# EAGLE library part AT91SAM3U2CA (library mbed-HDK-MF-ATMEL)
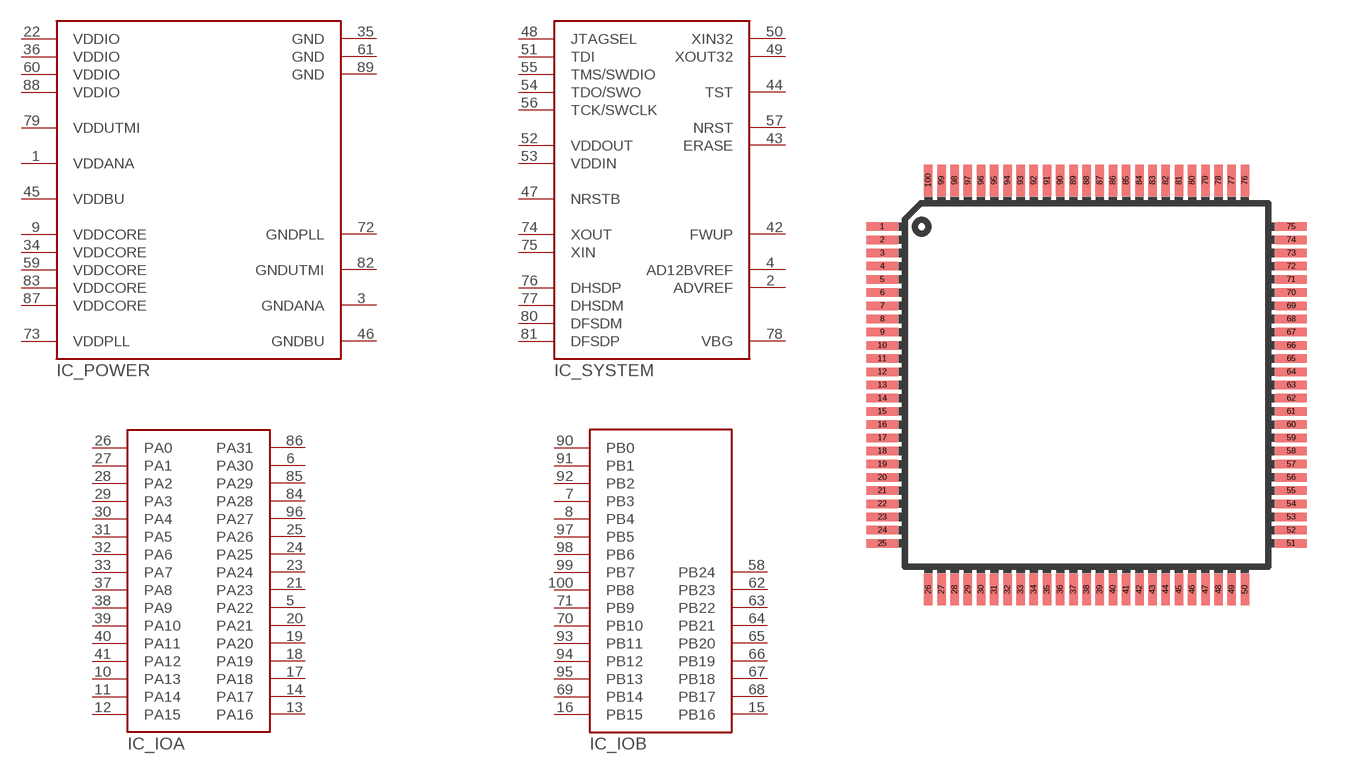
[diagram p4: symbol with the pads of LQFP100; footprint LQFP100]

Designator prefix IC; gates _POWER=AT91SAM3U2CA-AU_POWER _SYSTEM=AT91SAM3U2CA-AU_SYSTEM _IOA=AT91SAM3U2CA-AU_IOA _IOB=AT91SAM3U2CA-AU_IOB

## AT91SAM3U2CA  [LQFP100]
1  _POWER:VDDANA
2  _SYSTEM:ADVREF
3  _POWER:GNDANA
4  _SYSTEM:AD12BVREF
5  _IOA:PA22
6  _IOA:PA30
7  _IOB:PB3
8  _IOB:PB4
9  _POWER:VDDCORE
10  _IOA:PA13
11  _IOA:PA14
12  _IOA:PA15
13  _IOA:PA16
14  _IOA:PA17
15  _IOB:PB16
16  _IOB:PB15
17  _IOA:PA18
18  _IOA:PA19
19  _IOA:PA20
20  _IOA:PA21
21  _IOA:PA23
22  _POWER:VDDIO
23  _IOA:PA24
24  _IOA:PA25
25  _IOA:PA26
26  _IOA:PA0
27  _IOA:PA1
28  _IOA:PA2
29  _IOA:PA3
30  _IOA:PA4
31  _IOA:PA5
32  _IOA:PA6
33  _IOA:PA7
34  _POWER:VDDCORE
35  _POWER:GND
36  _POWER:VDDIO
37  _IOA:PA8
38  _IOA:PA9
39  _IOA:PA10
40  _IOA:PA11
41  _IOA:PA12
42  _SYSTEM:FWUP
43  _SYSTEM:ERASE
44  _SYSTEM:TST
45  _POWER:VDDBU
46  _POWER:GNDBU
47  _SYSTEM:NRSTB
48  _SYSTEM:JTAGSEL
49  _SYSTEM:XOUT32
50  _SYSTEM:XIN32
51  _SYSTEM:TDI
52  _SYSTEM:VDDOUT
53  _SYSTEM:VDDIN
54  _SYSTEM:TDO/SWO
55  _SYSTEM:TMS/SWDIO
56  _SYSTEM:TCK/SWCLK
57  _SYSTEM:NRST
58  _IOB:PB24
59  _POWER:VDDCORE
60  _POWER:VDDIO
61  _POWER:GND
62  _IOB:PB23
63  _IOB:PB22
64  _IOB:PB21
65  _IOB:PB20
66  _IOB:PB19
67  _IOB:PB18
68  _IOB:PB17
69  _IOB:PB14
70  _IOB:PB10
71  _IOB:PB9
72  _POWER:GNDPLL
73  _POWER:VDDPLL
74  _SYSTEM:XOUT
75  _SYSTEM:XIN
76  _SYSTEM:DHSDP
77  _SYSTEM:DHSDM
78  _SYSTEM:VBG
79  _POWER:VDDUTMI
80  _SYSTEM:DFSDM
81  _SYSTEM:DFSDP
82  _POWER:GNDUTMI
83  _POWER:VDDCORE
84  _IOA:PA28
85  _IOA:PA29
86  _IOA:PA31
87  _POWER:VDDCORE
88  _POWER:VDDIO
89  _POWER:GND
90  _IOB:PB0
91  _IOB:PB1
92  _IOB:PB2
93  _IOB:PB11
94  _IOB:PB12
95  _IOB:PB13
96  _IOA:PA27
97  _IOB:PB5
98  _IOB:PB6
99  _IOB:PB7
100  _IOB:PB8

## Footprint LQFP100 (pad centres in mm)
smd 1.2 x 0.32: 1 -7.75,6; 2 -7.75,5.5; 3 -7.75,5; 4 -7.75,4.5; 5 -7.75,4; 6 -7.75,3.5; 7 -7.75,3; 8 -7.75,2.5; 9 -7.75,2; 10 -7.75,1.5; 11 -7.75,1; 12 -7.75,0.5; 13 -7.75,0; 14 -7.75,-0.5; 15 -7.75,-1; 16 -7.75,-1.5; 17 -7.75,-2; 18 -7.75,-2.5; 19 -7.75,-3; 20 -7.75,-3.5; 21 -7.75,-4; 22 -7.75,-4.5; 23 -7.75,-5; 24 -7.75,-5.5; 25 -7.75,-6; 51 7.75,-6; 52 7.75,-5.5; 53 7.75,-5; 54 7.75,-4.5; 55 7.75,-4; 56 7.75,-3.5; 57 7.75,-3; 58 7.75,-2.5; 59 7.75,-2; 60 7.75,-1.5; 61 7.75,-1; 62 7.75,-0.5; 63 7.75,0; 64 7.75,0.5; 65 7.75,1; 66 7.75,1.5; 67 7.75,2; 68 7.75,2.5; 69 7.75,3; 70 7.75,3.5; 71 7.75,4; 72 7.75,4.5; 73 7.75,5; 74 7.75,5.5; 75 7.75,6
smd 0.32 x 1.2: 26 -6,-7.75; 27 -5.5,-7.75; 28 -5,-7.75; 29 -4.5,-7.75; 30 -4,-7.75; 31 -3.5,-7.75; 32 -3,-7.75; 33 -2.5,-7.75; 34 -2,-7.75; 35 -1.5,-7.75; 36 -1,-7.75; 37 -0.5,-7.75; 38 0,-7.75; 39 0.5,-7.75; 40 1,-7.75; 41 1.5,-7.75; 42 2,-7.75; 43 2.5,-7.75; 44 3,-7.75; 45 3.5,-7.75; 46 4,-7.75; 47 4.5,-7.75; 48 5,-7.75; 49 5.5,-7.75; 50 6,-7.75; 76 6,7.75; 77 5.5,7.75; 78 5,7.75; 79 4.5,7.75; 80 4,7.75; 81 3.5,7.75; 82 3,7.75; 83 2.5,7.75; 84 2,7.75; 85 1.5,7.75; 86 1,7.75; 87 0.5,7.75; 88 0,7.75; 89 -0.5,7.75; 90 -1,7.75; 91 -1.5,7.75; 92 -2,7.75; 93 -2.5,7.75; 94 -3,7.75; 95 -3.5,7.75; 96 -4,7.75; 97 -4.5,7.75; 98 -5,7.75; 99 -5.5,7.75; 100 -6,7.75